# Altium integrated library MSAST32NSB5106KTNA01.IntLib: 1 symbol
Pins are listed as number, name and electrical type; pins without a type are passive.

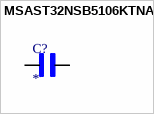
[diagram p0: symbol MSAST32NSB5106KTNA01]

## MSAST32NSB5106KTNA01
designator C?
MF: {'manufacturer': u'Taiyo Yuden'}; MP: MSAST32NSB5106KTNA01; Package: None; Price: None; Value: *; Availability: Unavailable
footprint CAPC3225X210N
pins: 1, 2